# EAGLE library part CON_HEADER_1X08 (library untitled)
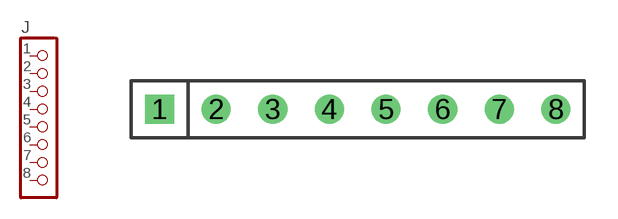
[diagram p4: symbol with the pads of M1X8; footprint M1X8]

Designator prefix J

## CON_HEADER_1X08-PTH  [M1X8]
1  1  pas
2  2  pas
3  3  pas
4  4  pas
5  5  pas
6  6  pas
7  7  pas
8  8  pas

## Footprint M1X8 (pad centres in mm)
drill 0.8 square: 1 -8.89,0
drill 0.8 round: 2 -6.35,0; 3 -3.81,0; 4 -1.27,0; 5 1.27,0; 6 3.81,0; 7 6.35,0; 8 8.89,0